# Altium schematic symbol library Intelligent_Agriculture_Power.SCHLIB: 13 symbols
Pins are listed as number, name and electrical type; pins without a type are passive.

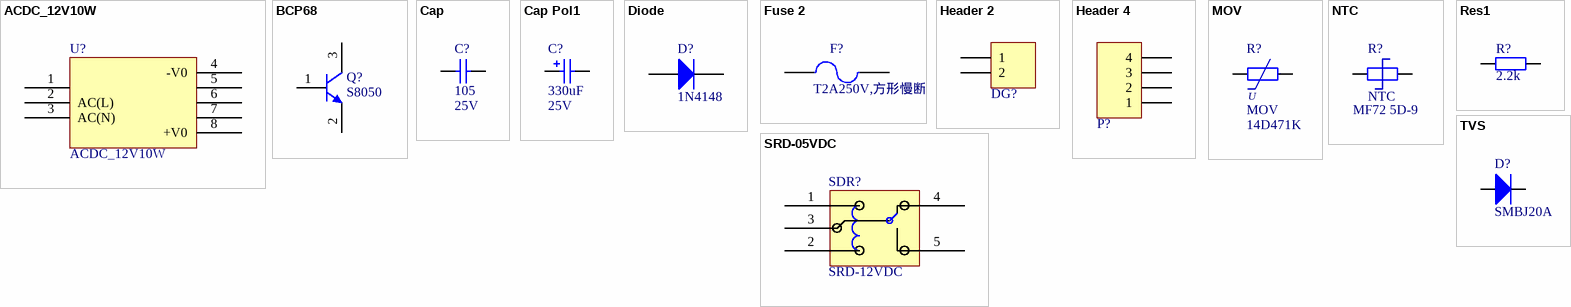
[diagram p0: symbols ACDC_12V10W to TVS]

## ACDC_12V10W
designator U?
ACDC模块_220VAC转12VDC; Value: XTQ10B-12W
footprint ACDC_XTQ10B-12W (220VAC转12VDC模块XTQ10B-12W或NA10-T2S12-V)
pins: 1, 2 AC(L), 3 AC(N), 4 -V0, 5, 6, 7, 8 +V0

## BCP68
designator Q?, comment S8050
NPN三极管; Published: 17-Sep-2003; LatestRevisionDate: 12-Dec-2006; LatestRevisionNote: IPC-7351 Footprint Added.; DatasheetVersion: 8-Apr-1999; PackageVersion: Aug-2001; PackageReference: SOT223; Publisher: Altium Limited; PackageDescription: 4-Pin SOT-223 Package 2.3 mm Pitch, 7 mm Lead Span; ComponentLink1Description: Manufacturer Link; ComponentLink1URL: http://www.semiconductors.philips.com/; ComponentLink2Description: Datasheet; ComponentLink2URL: http://www.semiconductors.philips.com/acrobat/datasheets/BCP68_4.pdf; Value: S8050
footprint TO-92A
footprint SOT-23
pins: 1 B, 2 E, 3 C

## Cap
designator C?  value 105  Vol: 25V  (hidden comment: Cap)
无极性电容; Published: 8-Jun-2000; LatestRevisionDate: 17-Jul-2002; LatestRevisionNote: Re-released for DXP Platform.; PackageReference: RAD-0.3; Publisher: Altium Limited
footprint C-RAD (瓷片电容)
footprint C-RAD-0805 (贴片电容)
footprint C-RAD-0603 (贴片电容)
footprint 0603-2 (贴片无丝印)
footprint 0805-2 (贴片无丝印)
footprint C-RAD-3528 (贴片电容)
pins: 1, 2

## Cap Pol1
designator C?  value 330uF  Vol: 25V  (hidden comment: Cap Pol1)
电解电容; Published: 8-Jun-2000; LatestRevisionDate: 17-Jul-2002; LatestRevisionNote: Re-released for DXP Platform.; PackageReference: RB7.6-15; Publisher: Altium Limited; PackageDescription: Polarized Capacitor (Radial); 2 Leads
footprint RB7.6-15 (Polarized Capacitor (Radial); 2 Leads)
footprint C-RB-2.54
pins: 1, 2
1 alternate drawing of the same symbol

## Diode
designator D?  value 1N4148  (hidden comment: Diode)
二极管; Published: 8-Jun-2000; LatestRevisionDate: 17-Jul-2002; LatestRevisionNote: Re-released for DXP Platform.; PackageDocument: Sep-1996; PackageReference: SMC; Publisher: Altium Limited; Code_JEDEC: DO-214-AB
footprint DIODE-AXL (直插二极管)
footprint DIODE-1206 (玻璃封装二极管)
footprint DIODE-SMA (贴片二)
pins: 1 A, 2 K

## Fuse 2
designator F?, comment value T2A250V,方形慢断  (hidden comment: Fuse)
保险丝; Published: 8-Jun-2000; LatestRevisionDate: 17-Jul-2002; LatestRevisionNote: Re-released for DXP Platform.; PackageReference: PIN-W2/E2.8; Publisher: Altium Limited
footprint 1812 (3.5A保险丝)
footprint FUSE 5*20 (插件保险丝)
footprint FUSE T1A250V (方形保险丝T1A250V)
pins: 1, 2

## Header 2
designator DG?  (value not drawn)
接插件; Value: 5.08-301-3P; LatestRevisionDate: 17-Jul-2002; LatestRevisionNote: Re-released for DXP Platform.; Publisher: Altium Limited
footprint HDR2X1_C (3.81接插件)
footprint HDR2X1_D1 (5.08mm端)
footprint HDR2X1_A (Connector; Header; 2 Position)
footprint HDR2X1_B2 (Connector; Header; 4 Position)
footprint HDR2X1_B1 (Connector; Header; 4 Position)
footprint HDR2X1_D2 (Connector; Header; 4 Position)
footprint DG301-2P (接插件301-2P 5.0脚距)
pins: 1, 2

## Header 4
designator P?  (value not drawn)
接插件; Value: XH2.54-4P; LatestRevisionDate: 17-Jul-2002; LatestRevisionNote: Re-released for DXP Platform.; Publisher: Altium Limited
footprint HDR4X1_A (Connector; Header; 4 Position)
footprint HDR4X1_B1 (Connector; Header; 4 Position)
footprint HDR4X1_B2 (Connector; Header; 4 Position)
footprint HDR4X1_F
footprint HDR4X1_C (3.81MM接插件)
pins: 1, 2, 3, 4

## MOV
designator R?  value 14D471K
压敏电阻; Published: 8-Jun-2000; LatestRevisionDate: 17-Jul-2002; LatestRevisionNote: Re-released for DXP Platform.; PackageReference: AXIAL-0.4; Publisher: Altium Limited
footprint 0805-1 (贴片带丝印)
footprint 0805-2 (贴片无丝印)
footprint 0603-1 (贴片带丝印)
footprint 1210 (贴片元件)
footprint AXIAL-0.8 (Semiconductor Resistor; 2 Leads)
footprint 2010 (贴片电阻)
footprint 0603-2 (贴片无丝印)
footprint 1206
footprint 2512 (保险丝)
footprint 1812 (保险丝)
footprint AXIAL-0.9 (插件电阻)
footprint 14D471K (压敏电阻14D471K)
pins: 1, 2
text: U

## NTC
designator R?  value MF72 5D-9
热敏电阻; Published: 8-Jun-2000; LatestRevisionDate: 17-Jul-2002; LatestRevisionNote: Re-released for DXP Platform.; PackageReference: AXIAL-0.4; Publisher: Altium Limited
footprint 0805-1 (贴片带丝印)
footprint 0805-2 (贴片无丝印)
footprint 0603-1 (贴片带丝印)
footprint 1210 (贴片元件)
footprint AXIAL-0.8 (Semiconductor Resistor; 2 Leads)
footprint 2010 (贴片电阻)
footprint 0603-2 (贴片无丝印)
footprint 1206
footprint 2512 (保险丝)
footprint 1812 (保险丝)
footprint AXIAL-0.9 (插件电阻)
footprint NTC 5D-9 (插件热敏电阻)
pins: 1, 2

## Res1
designator R?  value 2.2k  (hidden comment: Res1)
贴片电阻; Published: 8-Jun-2000; LatestRevisionDate: 17-Jul-2002; LatestRevisionNote: Re-released for DXP Platform.; PackageReference: AXIAL-0.4; Publisher: Altium Limited
footprint 0805-1 (贴片带丝印)
footprint 0805-2 (贴片无丝印)
footprint 0603-1 (贴片带丝印)
footprint 1210 (贴片元件)
footprint AXIAL-0.8 (Semiconductor Resistor; 2 Leads)
footprint 2010 (贴片电阻)
footprint 0603-2 (贴片无丝印)
footprint 1206
footprint 2512 (保险丝)
footprint 1812 (保险丝)
footprint AXIAL-0.9 (插件电阻)
pins: 1, 2

## SRD-05VDC
designator SDR?, comment SRD-12VDC
电磁继电器; Value: SRD-12VDC
footprint SRD-05VDC
pins: 1 EMIT, 2, 3, 4, 5

## TVS
designator D?  value SMBJ20A  (hidden comment: TVS)
TVS保护; Published: 8-Jun-2000; LatestRevisionDate: 17-Jul-2002; LatestRevisionNote: Re-released for DXP Platform.; PackageDocument: Sep-1996; PackageReference: SMC; Publisher: Altium Limited; Code_JEDEC: DO-214-AB
footprint DIODE-AXL (直插二极管)
footprint DIODE-1206 (玻璃封装二极管)
footprint DIODE-SMA (贴片二极管)
footprint DIODE-SMB (DO-214-AA/SMB; 2 C-Bend Leads; Body 5.3 x 3.6 mm, inc. leads (LxW))
pins: 1 A, 2 K